# EAGLE library part LTC4412 (library kwoo)
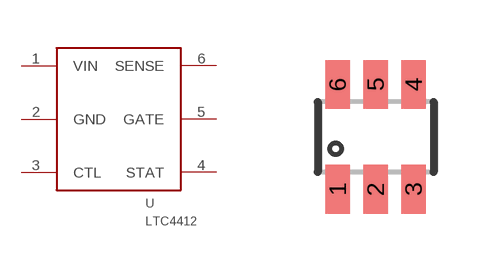
[diagram p3: symbol with the pads of 6-TSOT23; footprint 6-TSOT23]

Designator prefix -

## LTC4412  [6-TSOT23]
1  VIN  pwr
2  GND  pwr
3  CTL  in
4  STAT  out
5  GATE  out
6  SENSE  in

## Footprint 6-TSOT23 (pad centres in mm)
smd 0.62 x 1.22: 1 -0.95,-1.31; 2 0,-1.31; 3 0.95,-1.31; 4 0.95,1.31; 5 0,1.31; 6 -0.95,1.31